# EAGLE library part MAX14641-DEV (library MAX14611)
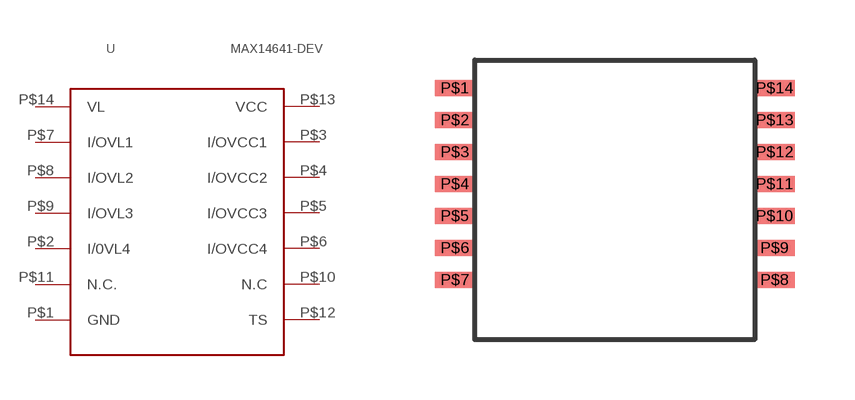
[diagram p0: symbol with the pads of TDFN-EP; footprint TDFN-EP]

Designator prefix -

## MAX14641-DEV  [TDFN-EP]
P$1  GND  pwr
P$2  I/0VL4
P$3  I/OVCC1
P$4  I/OVCC2
P$5  I/OVCC3
P$6  I/OVCC4
P$7  I/OVL1
P$8  I/OVL2
P$9  I/OVL3
P$10  N.C
P$11  N.C.
P$12  TS
P$13  VCC  pwr
P$14  VL  sup

## Footprint TDFN-EP (pad centres in mm)
smd 1 x 0.4: P$1 0.4,3; P$2 0.4,2.2; P$3 0.4,1.4; P$4 0.4,0.6; P$5 0.4,-0.2; P$6 0.4,-1; P$7 0.4,-1.8; P$8 8.4,-1.8; P$9 8.4,-1; P$10 8.4,-0.2; P$11 8.4,0.6; P$12 8.4,1.4; P$13 8.4,2.2; P$14 8.4,3